# EAGLE library part FPC-52WAY (library pimoroni-fpc)
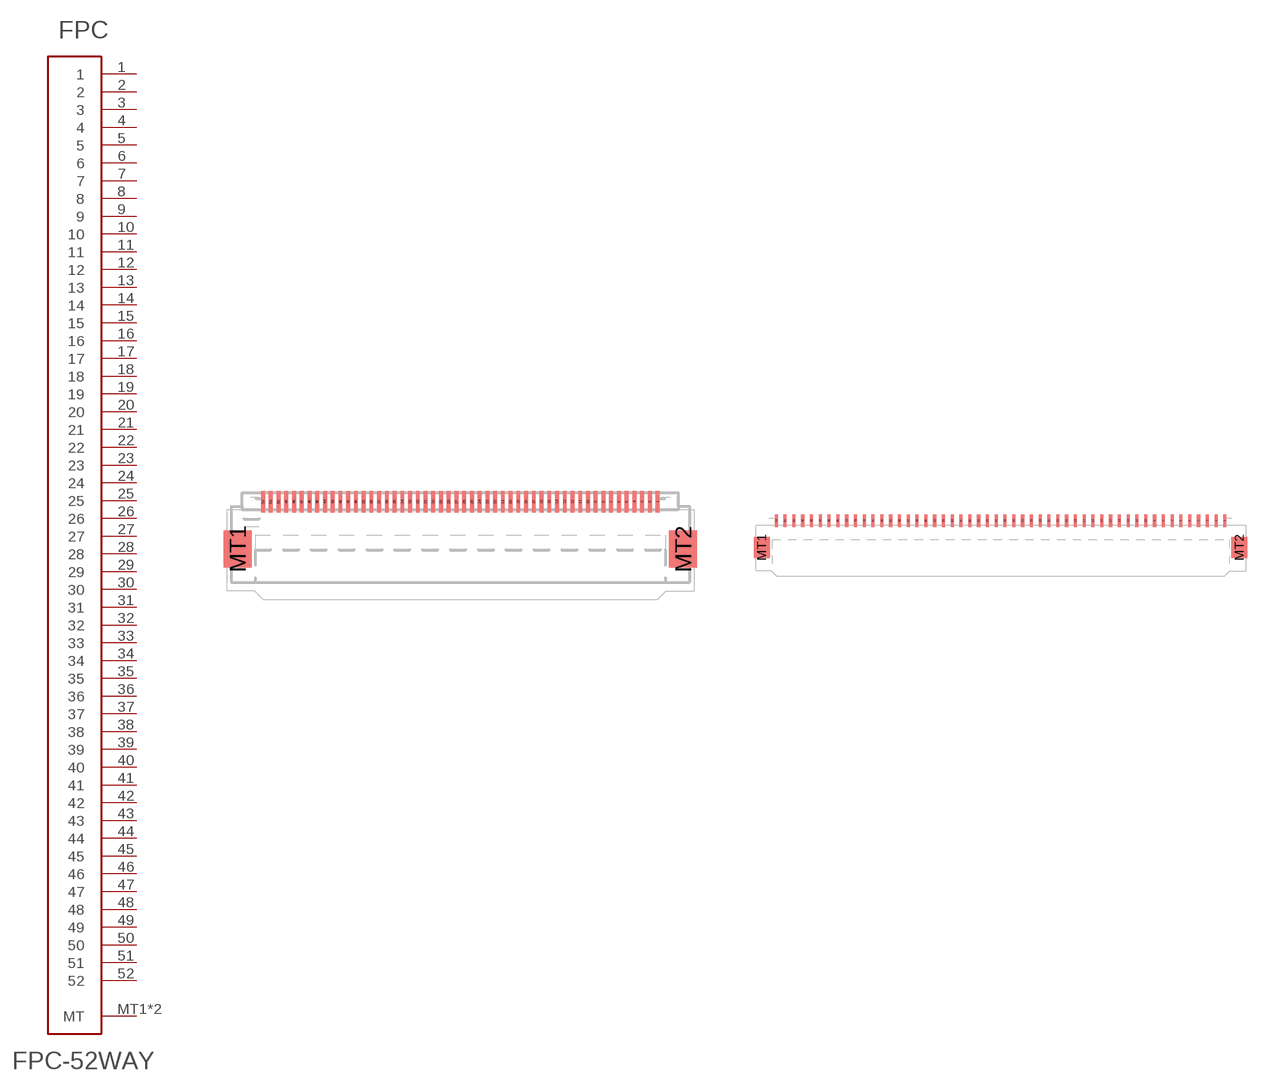
[diagram p47: symbol with the pads of FPC-0.5MM-52WAY; footprints FPC-0.5MM-52WAY, FPC-1.0MM-52WAY]

Designator prefix FPC

## FPC-52WAY0.5  [FPC-0.5MM-52WAY]
1  1
2  2
3  3
4  4
5  5
6  6
7  7
8  8
9  9
10  10
11  11
12  12
13  13
14  14
15  15
16  16
17  17
18  18
19  19
20  20
21  21
22  22
23  23
24  24
25  25
26  26
27  27
28  28
29  29
30  30
31  31
32  32
33  33
34  34
35  35
36  36
37  37
38  38
39  39
40  40
41  41
42  42
43  43
44  44
45  45
46  46
47  47
48  48
49  49
50  50
51  51
52  52
MT1  MT
MT2  MT

## FPC-52WAY1.0  [FPC-1.0MM-52WAY]
Pads as for FPC-0.5MM-52WAY

## Footprint FPC-0.5MM-52WAY (pad centres in mm)
smd 0.25 x 1.4: 1 12.75,0.7; 2 12.25,0.7; 3 11.75,0.7; 4 11.25,0.7; 5 10.75,0.7; 6 10.25,0.7; 7 9.75,0.7; 8 9.25,0.7; 9 8.75,0.7; 10 8.25,0.7; 11 7.75,0.7; 12 7.25,0.7; 13 6.75,0.7; 14 6.25,0.7; 15 5.75,0.7; 16 5.25,0.7; 17 4.75,0.7; 18 4.25,0.7; 19 3.75,0.7; 20 3.25,0.7; 21 2.75,0.7; 22 2.25,0.7; 23 1.75,0.7; 24 1.25,0.7; 25 0.75,0.7; 26 0.25,0.7; 27 -0.25,0.7; 28 -0.75,0.7; 29 -1.25,0.7; 30 -1.75,0.7; 31 -2.25,0.7; 32 -2.75,0.7; 33 -3.25,0.7; 34 -3.75,0.7; 35 -4.25,0.7; 36 -4.75,0.7; 37 -5.25,0.7; 38 -5.75,0.7; 39 -6.25,0.7; 40 -6.75,0.7; 41 -7.25,0.7; 42 -7.75,0.7; 43 -8.25,0.7; 44 -8.75,0.7; 45 -9.25,0.7; 46 -9.75,0.7; 47 -10.25,0.7; 48 -10.75,0.7; 49 -11.25,0.7; 50 -11.75,0.7; 51 -12.25,0.7; 52 -12.75,0.7
smd 1.8 x 2.4: MT1 -14.4,-2.35; MT2 14.4,-2.35

## Footprint FPC-1.0MM-52WAY (pad centres in mm)
smd 0.35 x 1.4: 1 25.5,0.7; 2 24.5,0.7; 3 23.5,0.7; 4 22.5,0.7; 5 21.5,0.7; 6 20.5,0.7; 7 19.5,0.7; 8 18.5,0.7; 9 17.5,0.7; 10 16.5,0.7; 11 15.5,0.7; 12 14.5,0.7; 13 13.5,0.7; 14 12.5,0.7; 15 11.5,0.7; 16 10.5,0.7; 17 9.5,0.7; 18 8.5,0.7; 19 7.5,0.7; 20 6.5,0.7; 21 5.5,0.7; 22 4.5,0.7; 23 3.5,0.7; 24 2.5,0.7; 25 1.5,0.7; 26 0.5,0.7; 27 -0.5,0.7; 28 -1.5,0.7; 29 -2.5,0.7; 30 -3.5,0.7; 31 -4.5,0.7; 32 -5.5,0.7; 33 -6.5,0.7; 34 -7.5,0.7; 35 -8.5,0.7; 36 -9.5,0.7; 37 -10.5,0.7; 38 -11.5,0.7; 39 -12.5,0.7; 40 -13.5,0.7; 41 -14.5,0.7; 42 -15.5,0.7; 43 -16.5,0.7; 44 -17.5,0.7; 45 -18.5,0.7; 46 -19.5,0.7; 47 -20.5,0.7; 48 -21.5,0.7; 49 -22.5,0.7; 50 -23.5,0.7; 51 -24.5,0.7; 52 -25.5,0.7
smd 1.8 x 2.4: MT1 -27.15,-2.35; MT2 27.15,-2.35